# Altium footprint library Driver.PcbLib: 20 footprints (part 2 of 2)
Each footprint in its own frame and in the unit in brackets; x right, y up, seen from the top. Pads: shape width x height; smd on the part's side, far side on the other; paste and mask are expansions set on the pad; w line width, h text height; cw(c..) or ccw(c..) is an arc to the next point about the centre after c.
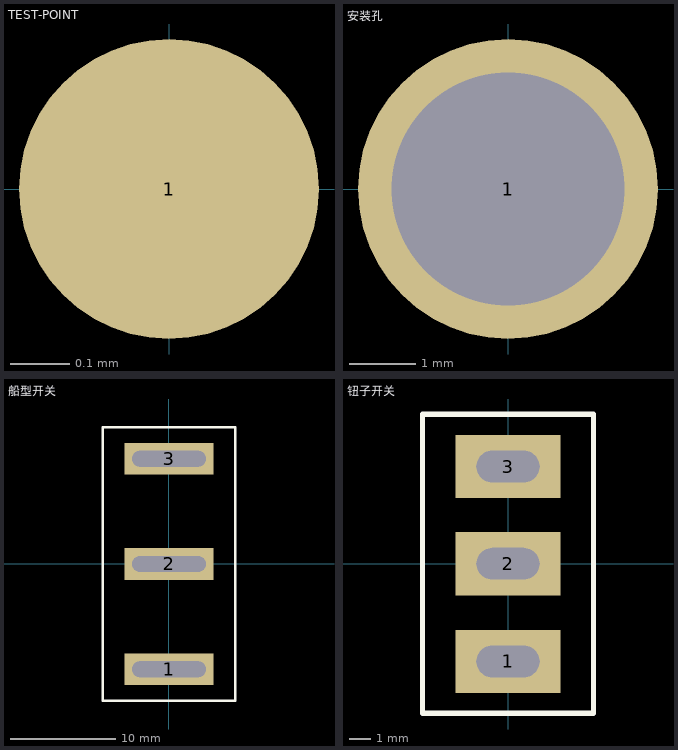
[diagram p1: the footprints below, top view; thin cyan lines are the x and y axes]

## TEST-POINT [mil]
pads (1):
  round 20 smd: 1(0,0)

## 安装孔 [mm]
pads (1):
  round 4.5 hole 3.5: 1(0,0)

## 船型开关 [mm]
pads (3):
  rect 8.5x3 hole 1.5 slot 7 at 0 deg: 1(0,-10) 2(0,0) 3(0,10)
Top Overlay:
  lines w0.254: -6.3,-13 -6.3,13 6.3,13 6.3,-13 -6.3,-13

## 钮子开关 [mm]
pads (3):
  rect 5x3 hole 1.5 slot 3 at 0 deg: 1(0,-4.648) 2(0,0) 3(0,4.623)
Top Overlay:
  lines w0.254: -4.064,-7.112 4.064,-7.112 4.064,7.112 -4.064,7.112 -4.064,-7.112